# Altium footprint library 4P_PCB_ScrewTerm_90S_3.81MM.PcbLib: 1 footprints
Each footprint in its own frame and in the unit in brackets; x right, y up, seen from the top. Pads: shape width x height; smd on the part's side, far side on the other; paste and mask are expansions set on the pad; w line width, h text height; cw(c..) or ccw(c..) is an arc to the next point about the centre after c.
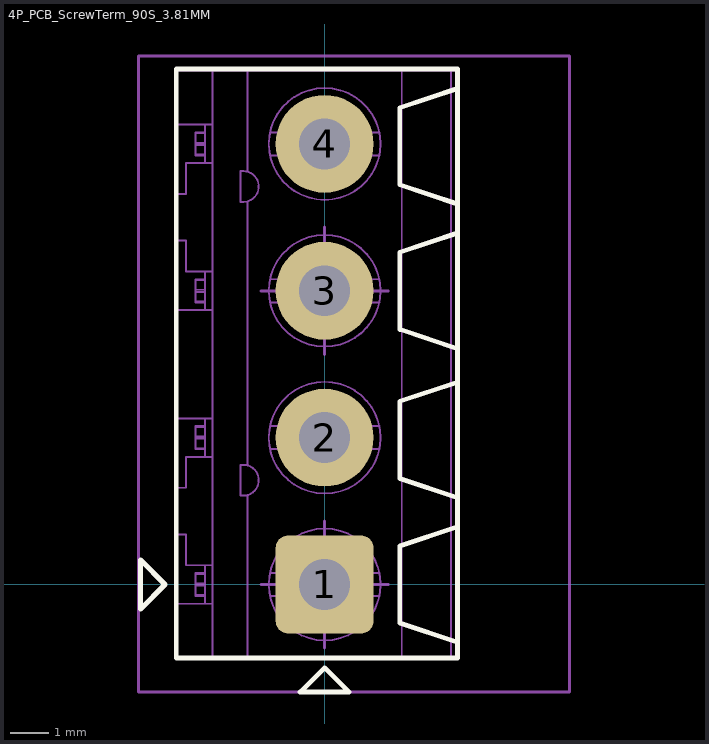
[diagram p0: the footprint, top view; thin cyan lines are the x and y axes]

## 4P_PCB_ScrewTerm_90S_3.81MM [mil]
pads (4):
  rrect25% 100x100 hole 52: 1(0,0)
  round 100 hole 52: 2(0,150) 3(0,300) 4(0,450)
Top Overlay:
  lines w5: -151.57,225 -151.57,526.38 135.83,526.38 135.83,225 ; -151.57,226.38 -151.57,-75 135.83,-75 135.83,226.38 ; 135.83,-59.06 76.78,-39.37 76.78,39.37 135.83,59.06 ; 135.83,88.58 76.78,108.27 76.78,187.01 135.83,206.69 ; 135.83,240.94 76.78,260.63 76.78,339.37 135.83,359.06 ; 135.83,388.58 76.78,408.27 76.78,487.01 135.83,506.69 ; -188,-25 -188,25 -163,0 -188,-25 ; -25,-110 0,-85 25,-110 -25,-110
Mechanical 13:
  circle w1.97: c0,150 r57.09
  circle w1.97: c0,0 r57.09
  circle w1.97: c0,300 r57.09
  circle w1.97: c0,450 r57.09
  lines w1.97: -151.57,-19.69 -114.76,-19.69 -114.76,19.68 -141.73,19.68 -141.73,51.18 -151.57,51.18 ; -151.57,98.82 -141.73,98.82 -141.73,130.31 -114.76,130.31 -114.76,169.69 -151.57,169.69 ; -151.57,280.31 -114.76,280.31 -114.76,319.69 -141.73,319.69 -141.73,351.18 -151.57,351.18 ; -151.57,398.82 -141.73,398.82 -141.73,430.31 -114.76,430.31 -114.76,469.69 -151.57,469.69 ; -131.89,-10.91 -122.05,-10.91 ; -131.89,-1.06 -122.05,-1.06 ; -131.89,1.06 -122.05,1.06 ; -131.89,10.91 -122.05,10.91 ; -131.89,139.09 -122.05,139.09 ; -131.89,148.94 -122.05,148.94 ; -131.89,151.06 -122.05,151.06 ; -131.89,160.91 -122.05,160.91 ; -131.89,289.09 -122.05,289.09 ; -131.89,298.94 -122.05,298.94 ; -131.89,301.06 -122.05,301.06 ; -131.89,310.91 -122.05,310.91 ; -131.89,439.09 -122.05,439.09 ; -131.89,448.94 -122.05,448.94 ; -131.89,451.06 -122.05,451.06 ; -131.89,460.91 -122.05,460.91 ; -122.05,-19.69 -122.05,19.68 ; -122.05,-11.81 -131.89,-11.81 -131.89,11.81 -122.05,11.81 ; -122.05,130.31 -122.05,169.69 ; -122.05,138.19 -131.89,138.19 -131.89,161.81 -122.05,161.81 ; -122.05,280.31 -122.05,319.69 ; -122.05,288.19 -131.89,288.19 -131.89,311.81 -122.05,311.81 ; -122.05,430.31 -122.05,469.69 ; -122.05,438.19 -131.89,438.19 -131.89,461.81 -122.05,461.81 ; -114.56,-75 -114.56,225 -114.56,525 ; -78.74,-75 -78.74,91.34 ; -78.74,121.65 -78.74,225 -78.74,391.34 ; -78.74,421.65 -78.74,525 ; -55.85,-11.81 55.85,-11.81 ; -55.85,11.81 55.85,11.81 ; -55.85,138.19 55.85,138.19 ; -55.85,161.81 55.85,161.81 ; -55.85,288.19 55.85,288.19 ; -55.85,311.81 55.85,311.81 ; -55.85,438.19 55.85,438.19 ; -55.85,461.81 55.85,461.81 ; 78.74,-75 78.74,225 78.74,525 ; 128.89,-75 128.89,225 128.89,525 ; -151.57,-75 135.83,-75 135.83,225 135.83,525 -151.57,525 -151.57,225 -151.57,-75 ; -85.91,90.75 -85.91,122.24 -83.03,122.24 cw(c-83.03,106.5) -83.03,90.75 -85.91,90.75 ; -85.91,390.75 -83.03,390.75 ccw(c-83.03,406.5) -83.03,422.24 -85.91,422.24 -85.91,390.75
Mechanical 15:
  lines w3: -65,0 65,0 ; -65,300 65,300 ; 0,-65 0,65 ; 0,235 0,365 ; -190,-110 250,-110 250,540 -190,540 -190,-110
3D body: height 334.65, standoff -137.8, extent -151.57,-75.19 135.83,224.81
3D body: height 334.65, standoff -137.8, extent -151.57,224.81 135.83,524.81